# EAGLE library part LT3748 (library linear-technology)
Isolated Flyback Controller
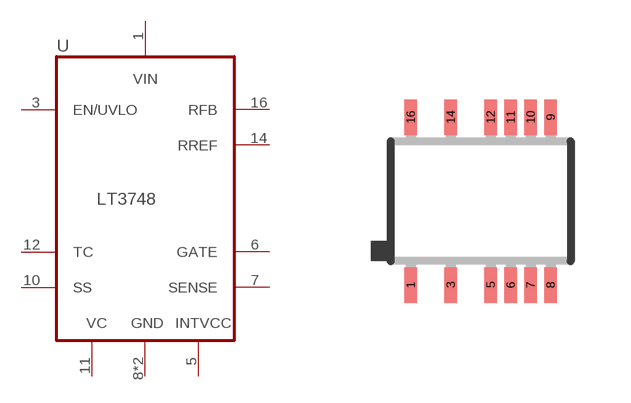
[diagram p59: symbol with the pads of MSOP16-MS16(12); footprint MSOP16-MS16(12)]

Designator prefix U

## LT3748  [MSOP16-MS16(12)]
1  VIN  pas
3  EN/UVLO  in
5  INTVCC  pas
6  GATE  out
7  SENSE  in
8  GND  pwr
9  GND  pwr
10  SS  pas
11  VC  pas
12  TC  pas
14  RREF  in
16  RFB  in

## Footprint MSOP16-MS16(12) (pad centres in mm)
MSOP16-MS16(12) Varitation: MS16 (12) 16-Lead Plastic MSOP with 4 Pins Removed
smd 0.305 x 0.889: 1 -1.75,-2.1; 3 -0.75,-2.1; 5 0.25,-2.1; 6 0.75,-2.1; 7 1.25,-2.1; 8 1.75,-2.1; 9 1.75,2.1; 10 1.25,2.1; 11 0.75,2.1; 12 0.25,2.1; 14 -0.75,2.1; 16 -1.75,2.1